# EAGLE library part SOCKET_8 (library HAVRM)
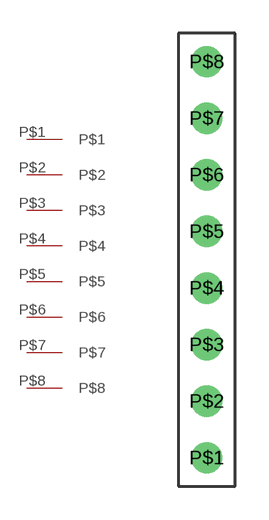
[diagram p4: symbol with the pads of SOCKET_8; footprint SOCKET_8]

Designator prefix -

## SOCKET_8  [SOCKET_8]
P$1  P$1
P$2  P$2
P$3  P$3
P$4  P$4
P$5  P$5
P$6  P$6
P$7  P$7
P$8  P$8

## Footprint SOCKET_8 (pad centres in mm)
drill 0.9: P$1 0,0; P$2 0,2.54; P$3 0,5.08; P$4 0,7.62; P$5 0,10.16; P$6 0,12.7; P$7 0,15.24; P$8 0,17.78